# EAGLE library part ADUM1250 (library Public)
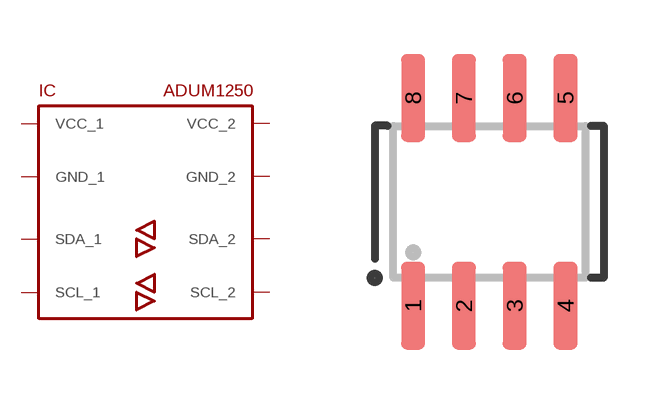
[diagram p49: symbol with the pads of SO8; footprint SO8]

Designator prefix IC

## ADUM1250  [SO8]
1  VCC_1
2  SDA_1
3  SCL_1
4  GND_1
5  GND_2
6  SCL_2
7  SDA_2
8  VCC_2

## Footprint SO8 (pad centres in mm)
smd 0.6 x 2.2: 1 -1.905,-2.6; 2 -0.635,-2.6; 3 0.635,-2.6; 4 1.905,-2.6; 5 1.905,2.6; 6 0.635,2.6; 7 -0.635,2.6; 8 -1.905,2.6